# Altium integrated library WE-FC Common Mode Power Line Choke.IntLib: 24 symbols
Pins are listed as number, name and electrical type; pins without a type are passive.

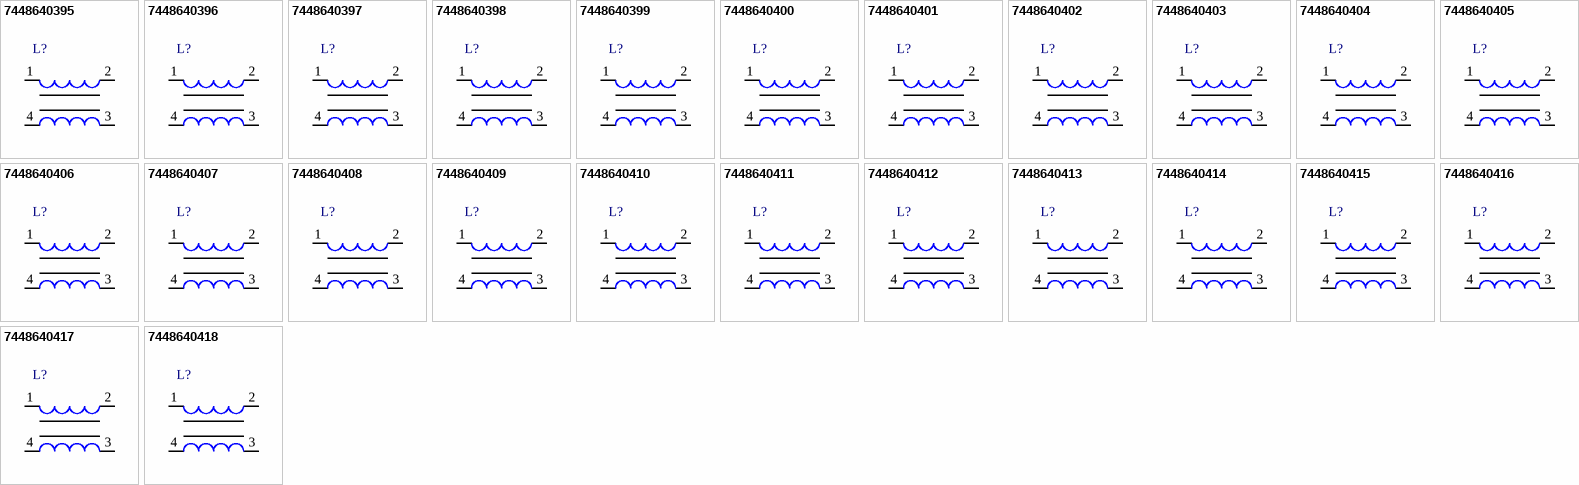
[diagram p0: symbols 7448640395 to 7448640418]

## 7448640395
designator L?
THT Common Mode Power Line Choke WE-FC, L = 0.82 mH; PartNumber: 7448640395; Inductance: 0.82 mH; DatasheetVersion: ver 1, Aug-2009; PackageReference: WE-FC-ET; PackageDescription: THT Inductor, 4-Leads, Body 21.2 x 21.2 mm; ComponentLink1Description: Manufacturer URL; ComponentLink1URL: http://www.we-online.com; ComponentLink2Description: Datasheet; ComponentLink2URL: http://www.we-online.de/katalog/media/pdf/7448640395.pdf
footprint WE-FC-ET (THT Inductor, 4-Leads, Body 21.2x21.2x17.8 mm)
pins: 1, 2, 3, 4

## 7448640396
designator L?
THT Common Mode Power Line Choke WE-FC, L = 1.80 mH; PartNumber: 7448640396; Inductance: 1.80 mH; DatasheetVersion: ver 1, Aug-2009; PackageReference: WE-FC-ET; PackageDescription: THT Inductor, 4-Leads, Body 21.2 x 21.2 mm; ComponentLink1Description: Manufacturer URL; ComponentLink1URL: http://www.we-online.com; ComponentLink2Description: Datasheet; ComponentLink2URL: http://www.we-online.de/katalog/media/pdf/7448640396.pdf
footprint WE-FC-ET (THT Inductor, 4-Leads, Body 21.2x21.2x17.8 mm)
pins: 1, 2, 3, 4

## 7448640397
designator L?
THT Common Mode Power Line Choke WE-FC, L = 2.70 mH; PartNumber: 7448640397; Inductance: 2.70 mH; DatasheetVersion: ver 1, Aug-2009; PackageReference: WE-FC-ET; PackageDescription: THT Inductor, 4-Leads, Body 21.2 x 21.2 mm; ComponentLink1Description: Manufacturer URL; ComponentLink1URL: http://www.we-online.com; ComponentLink2Description: Datasheet; ComponentLink2URL: http://www.we-online.de/katalog/media/pdf/7448640397.pdf
footprint WE-FC-ET (THT Inductor, 4-Leads, Body 21.2x21.2x17.8 mm)
pins: 1, 2, 3, 4

## 7448640398
designator L?
THT Common Mode Power Line Choke WE-FC, L = 3.30 mH; PartNumber: 7448640398; Inductance: 3.30 mH; DatasheetVersion: ver 1, Aug-2009; PackageReference: WE-FC-ET; PackageDescription: THT Inductor, 4-Leads, Body 21.2 x 21.2 mm; ComponentLink1Description: Manufacturer URL; ComponentLink1URL: http://www.we-online.com; ComponentLink2Description: Datasheet; ComponentLink2URL: http://www.we-online.de/katalog/media/pdf/7448640398.pdf
footprint WE-FC-ET (THT Inductor, 4-Leads, Body 21.2x21.2x17.8 mm)
pins: 1, 2, 3, 4

## 7448640399
designator L?
THT Common Mode Power Line Choke WE-FC, L = 3.9 mH; PartNumber: 7448640399; Inductance: 3.9 mH; DatasheetVersion: ver 1, Aug-2009; PackageReference: WE-FC-ET; PackageDescription: THT Inductor, 4-Leads, Body 21.2 x 21.2 mm; ComponentLink1Description: Manufacturer URL; ComponentLink1URL: http://www.we-online.com; ComponentLink2Description: Datasheet; ComponentLink2URL: http://www.we-online.de/katalog/media/pdf/7448640399.pdf
footprint WE-FC-ET (THT Inductor, 4-Leads, Body 21.2x21.2x17.8 mm)
pins: 1, 2, 3, 4

## 7448640400
designator L?
THT Common Mode Power Line Choke WE-FC, L = 5.60 mH; PartNumber: 7448640400; Inductance: 5.60 mH; DatasheetVersion: ver 1, Aug-2009; PackageReference: WE-FC-ET; PackageDescription: THT Inductor, 4-Leads, Body 21.2 x 21.2 mm; ComponentLink1Description: Manufacturer URL; ComponentLink1URL: http://www.we-online.com; ComponentLink2Description: Datasheet; ComponentLink2URL: http://www.we-online.de/katalog/media/pdf/7448640400.pdf
footprint WE-FC-ET (THT Inductor, 4-Leads, Body 21.2x21.2x17.8 mm)
pins: 1, 2, 3, 4

## 7448640401
designator L?
THT Common Mode Power Line Choke WE-FC, L = 6.80 mH; PartNumber: 7448640401; Inductance: 6.80 mH; DatasheetVersion: ver 1, Aug-2009; PackageReference: WE-FC-ET; PackageDescription: THT Inductor, 4-Leads, Body 21.2 x 21.2 mm; ComponentLink1Description: Manufacturer URL; ComponentLink1URL: http://www.we-online.com; ComponentLink2Description: Datasheet; ComponentLink2URL: http://www.we-online.de/katalog/media/pdf/7448640401.pdf
footprint WE-FC-ET (THT Inductor, 4-Leads, Body 21.2x21.2x17.8 mm)
pins: 1, 2, 3, 4

## 7448640402
designator L?
THT Common Mode Power Line Choke WE-FC, L = 10.0 mH; PartNumber: 7448640402; Inductance: 10.0 mH; DatasheetVersion: ver 1, Aug-2009; PackageReference: WE-FC-ET; PackageDescription: THT Inductor, 4-Leads, Body 21.2 x 21.2 mm; ComponentLink1Description: Manufacturer URL; ComponentLink1URL: http://www.we-online.com; ComponentLink2Description: Datasheet; ComponentLink2URL: http://www.we-online.de/katalog/media/pdf/7448640402.pdf
footprint WE-FC-ET (THT Inductor, 4-Leads, Body 21.2x21.2x17.8 mm)
pins: 1, 2, 3, 4

## 7448640403
designator L?
THT Common Mode Power Line Choke WE-FC, L = 18.0 mH; PartNumber: 7448640403; Inductance: 18.0 mH; DatasheetVersion: ver 1, Aug-2009; PackageReference: WE-FC-ET; PackageDescription: THT Inductor, 4-Leads, Body 21.2 x 21.2 mm; ComponentLink1Description: Manufacturer URL; ComponentLink1URL: http://www.we-online.com; ComponentLink2Description: Datasheet; ComponentLink2URL: http://www.we-online.de/katalog/media/pdf/7448640403.pdf
footprint WE-FC-ET (THT Inductor, 4-Leads, Body 21.2x21.2x17.8 mm)
pins: 1, 2, 3, 4

## 7448640404
designator L?
THT Common Mode Power Line Choke WE-FC, L = 22.0 mH; PartNumber: 7448640404; Inductance: 22.0 mH; DatasheetVersion: ver 1, Aug-2009; PackageReference: WE-FC-ET; PackageDescription: THT Inductor, 4-Leads, Body 21.2 x 21.2 mm; ComponentLink1Description: Manufacturer URL; ComponentLink1URL: http://www.we-online.com; ComponentLink2Description: Datasheet; ComponentLink2URL: http://www.we-online.de/katalog/media/pdf/7448640404.pdf
footprint WE-FC-ET (THT Inductor, 4-Leads, Body 21.2x21.2x17.8 mm)
pins: 1, 2, 3, 4

## 7448640405
designator L?
THT Common Mode Power Line Choke WE-FC, L = 33.0 mH; PartNumber: 7448640405; Inductance: 33.0 mH; DatasheetVersion: ver 1, Aug-2009; PackageReference: WE-FC-ET; PackageDescription: THT Inductor, 4-Leads, Body 21.2 x 21.2 mm; ComponentLink1Description: Manufacturer URL; ComponentLink1URL: http://www.we-online.com; ComponentLink2Description: Datasheet; ComponentLink2URL: http://www.we-online.de/katalog/media/pdf/7448640405.pdf
footprint WE-FC-ET (THT Inductor, 4-Leads, Body 21.2x21.2x17.8 mm)
pins: 1, 2, 3, 4

## 7448640406
designator L?
THT Common Mode Power Line Choke WE-FC, L = 0.82 mH; PartNumber: 7448640406; Inductance: 0.82 mH; DatasheetVersion: ver 1, Aug-2009; PackageReference: WE-FC-UT; PackageDescription: THT Inductor, 4-Leads, Body 21.2 x 16.6 mm; ComponentLink1Description: Manufacturer URL; ComponentLink1URL: http://www.we-online.com; ComponentLink2Description: Datasheet; ComponentLink2URL: http://www.we-online.de/katalog/media/pdf/7448640406.pdf
footprint WE-FC-UT (THT Inductor, 4-Leads, Body 21.2x16.6x22.5 mm)
pins: 1, 2, 3, 4

## 7448640407
designator L?
THT Common Mode Power Line Choke WE-FC, L = 1.20 mH; PartNumber: 7448640407; Inductance: 1.20 mH; DatasheetVersion: ver 1, Aug-2009; PackageReference: WE-FC-UT; PackageDescription: THT Inductor, 4-Leads, Body 21.2 x 16.6 mm; ComponentLink1Description: Manufacturer URL; ComponentLink1URL: http://www.we-online.com; ComponentLink2Description: Datasheet; ComponentLink2URL: http://www.we-online.de/katalog/media/pdf/7448640407.pdf
footprint WE-FC-UT (THT Inductor, 4-Leads, Body 21.2x16.6x22.5 mm)
pins: 1, 2, 3, 4

## 7448640408
designator L?
THT Common Mode Power Line Choke WE-FC, L = 1.80 mH; PartNumber: 7448640408; Inductance: 1.80 mH; DatasheetVersion: ver 1, Aug-2009; PackageReference: WE-FC-UT; PackageDescription: THT Inductor, 4-Leads, Body 21.2 x 16.6 mm; ComponentLink1Description: Manufacturer URL; ComponentLink1URL: http://www.we-online.com; ComponentLink2Description: Datasheet; ComponentLink2URL: http://www.we-online.de/katalog/media/pdf/7448640408.pdf
footprint WE-FC-UT (THT Inductor, 4-Leads, Body 21.2x16.6x22.5 mm)
pins: 1, 2, 3, 4

## 7448640409
designator L?
THT Common Mode Power Line Choke WE-FC, L = 2.20 mH; PartNumber: 7448640409; Inductance: 2.20 mH; DatasheetVersion: ver 1, Aug-2009; PackageReference: WE-FC-UT; PackageDescription: THT Inductor, 4-Leads, Body 21.2 x 16.6 mm; ComponentLink1Description: Manufacturer URL; ComponentLink1URL: http://www.we-online.com; ComponentLink2Description: Datasheet; ComponentLink2URL: http://www.we-online.de/katalog/media/pdf/7448640409.pdf
footprint WE-FC-UT (THT Inductor, 4-Leads, Body 21.2x16.6x22.5 mm)
pins: 1, 2, 3, 4

## 7448640410
designator L?
THT Common Mode Power Line Choke WE-FC, L = 2.70 mH; PartNumber: 7448640410; Inductance: 2.70 mH; DatasheetVersion: ver 1, Aug-2009; PackageReference: WE-FC-UT; PackageDescription: THT Inductor, 4-Leads, Body 21.2 x 16.6 mm; ComponentLink1Description: Manufacturer URL; ComponentLink1URL: http://www.we-online.com; ComponentLink2Description: Datasheet; ComponentLink2URL: http://www.we-online.de/katalog/media/pdf/7448640410.pdf
footprint WE-FC-UT (THT Inductor, 4-Leads, Body 21.2x16.6x22.5 mm)
pins: 1, 2, 3, 4

## 7448640411
designator L?
THT Common Mode Power Line Choke WE-FC, L = 3.30 mH; PartNumber: 7448640411; Inductance: 3.30 mH; DatasheetVersion: ver 1, Aug-2009; PackageReference: WE-FC-UT; PackageDescription: THT Inductor, 4-Leads, Body 21.2 x 16.6 mm; ComponentLink1Description: Manufacturer URL; ComponentLink1URL: http://www.we-online.com; ComponentLink2Description: Datasheet; ComponentLink2URL: http://www.we-online.de/katalog/media/pdf/7448640411.pdf
footprint WE-FC-UT (THT Inductor, 4-Leads, Body 21.2x16.6x22.5 mm)
pins: 1, 2, 3, 4

## 7448640412
designator L?
THT Common Mode Power Line Choke WE-FC, L = 3.90 mH; PartNumber: 7448640412; Inductance: 3.90 mH; DatasheetVersion: ver 1, Aug-2009; PackageReference: WE-FC-UT; PackageDescription: THT Inductor, 4-Leads, Body 21.2 x 16.6 mm; ComponentLink1Description: Manufacturer URL; ComponentLink1URL: http://www.we-online.com; ComponentLink2Description: Datasheet; ComponentLink2URL: http://www.we-online.de/katalog/media/pdf/7448640412.pdf
footprint WE-FC-UT (THT Inductor, 4-Leads, Body 21.2x16.6x22.5 mm)
pins: 1, 2, 3, 4

## 7448640413
designator L?
THT Common Mode Power Line Choke WE-FC, L = 5.60 mH; PartNumber: 7448640413; Inductance: 5.60 mH; DatasheetVersion: ver 1, Aug-2009; PackageReference: WE-FC-UT; PackageDescription: THT Inductor, 4-Leads, Body 21.2 x 16.6 mm; ComponentLink1Description: Manufacturer URL; ComponentLink1URL: http://www.we-online.com; ComponentLink2Description: Datasheet; ComponentLink2URL: http://www.we-online.de/katalog/media/pdf/7448640413.pdf
footprint WE-FC-UT (THT Inductor, 4-Leads, Body 21.2x16.6x22.5 mm)
pins: 1, 2, 3, 4

## 7448640414
designator L?
THT Common Mode Power Line Choke WE-FC, L = 6.80 mH; PartNumber: 7448640414; Inductance: 6.80 mH; DatasheetVersion: ver 1, Aug-2009; PackageReference: WE-FC-UT; PackageDescription: THT Inductor, 4-Leads, Body 21.2 x 16.6 mm; ComponentLink1Description: Manufacturer URL; ComponentLink1URL: http://www.we-online.com; ComponentLink2Description: Datasheet; ComponentLink2URL: http://www.we-online.de/katalog/media/pdf/7448640414.pdf
footprint WE-FC-UT (THT Inductor, 4-Leads, Body 21.2x16.6x22.5 mm)
pins: 1, 2, 3, 4

## 7448640415
designator L?
THT Common Mode Power Line Choke WE-FC, L = 10.0 mH; PartNumber: 7448640415; Inductance: 10.0 mH; DatasheetVersion: ver 1, Aug-2009; PackageReference: WE-FC-UT; PackageDescription: THT Inductor, 4-Leads, Body 21.2 x 16.6 mm; ComponentLink1Description: Manufacturer URL; ComponentLink1URL: http://www.we-online.com; ComponentLink2Description: Datasheet; ComponentLink2URL: http://www.we-online.de/katalog/media/pdf/7448640415.pdf
footprint WE-FC-UT (THT Inductor, 4-Leads, Body 21.2x16.6x22.5 mm)
pins: 1, 2, 3, 4

## 7448640416
designator L?
THT Common Mode Power Line Choke WE-FC, L = 18.0 mH; PartNumber: 7448640416; Inductance: 18.0 mH; DatasheetVersion: ver 1, Aug-2009; PackageReference: WE-FC-UT; PackageDescription: THT Inductor, 4-Leads, Body 21.2 x 16.6 mm; ComponentLink1Description: Manufacturer URL; ComponentLink1URL: http://www.we-online.com; ComponentLink2Description: Datasheet; ComponentLink2URL: http://www.we-online.de/katalog/media/pdf/7448640416.pdf
footprint WE-FC-UT (THT Inductor, 4-Leads, Body 21.2x16.6x22.5 mm)
pins: 1, 2, 3, 4

## 7448640417
designator L?
THT Common Mode Power Line Choke WE-FC, L = 22.0 mH; PartNumber: 7448640417; Inductance: 22.0 mH; DatasheetVersion: ver 1, Aug-2009; PackageReference: WE-FC-UT; PackageDescription: THT Inductor, 4-Leads, Body 21.2 x 16.6 mm; ComponentLink1Description: Manufacturer URL; ComponentLink1URL: http://www.we-online.com; ComponentLink2Description: Datasheet; ComponentLink2URL: http://www.we-online.de/katalog/media/pdf/7448640417.pdf
footprint WE-FC-UT (THT Inductor, 4-Leads, Body 21.2x16.6x22.5 mm)
pins: 1, 2, 3, 4

## 7448640418
designator L?
THT Common Mode Power Line Choke WE-FC, L = 33.0 mH; PartNumber: 7448640418; Inductance: 33.0 mH; DatasheetVersion: ver 1, Aug-2009; PackageReference: WE-FC-UT; PackageDescription: THT Inductor, 4-Leads, Body 21.2 x 16.6 mm; ComponentLink1Description: Manufacturer URL; ComponentLink1URL: http://www.we-online.com; ComponentLink2Description: Datasheet; ComponentLink2URL: http://www.we-online.de/katalog/media/pdf/7448640418.pdf
footprint WE-FC-UT (THT Inductor, 4-Leads, Body 21.2x16.6x22.5 mm)
pins: 1, 2, 3, 4